# EAGLE library part M-2X18- (library con-headers-jp)
MALE HEADER
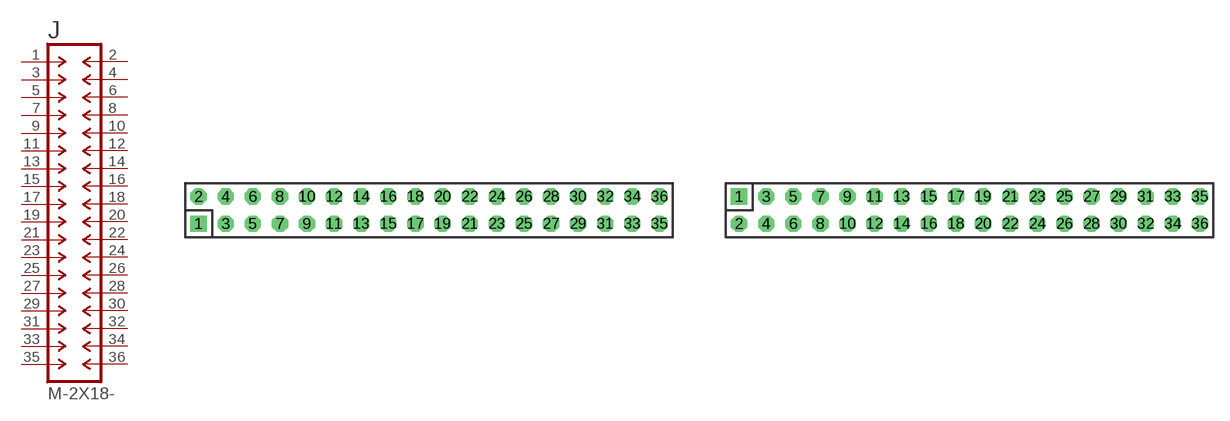
[diagram p71: symbol with the pads of DIL-100-2X18; footprints DIL-100-2X18, DIL-100-2X18_M]

Designator prefix J

## M-2X18-DIL-100  [DIL-100-2X18]
1  1  pas
2  2  pas
3  3  pas
4  4  pas
5  5  pas
6  6  pas
7  7  pas
8  8  pas
9  9  pas
10  10  pas
11  11  pas
12  12  pas
13  13  pas
14  14  pas
15  15  pas
16  16  pas
17  17  pas
18  18  pas
19  19  pas
20  20  pas
21  21  pas
22  22  pas
23  23  pas
24  24  pas
25  25  pas
26  26  pas
27  27  pas
28  28  pas
29  29  pas
30  30  pas
31  31  pas
32  32  pas
33  33  pas
34  34  pas
35  35  pas
36  36  pas

## M-2X18-DIL-100_M  [DIL-100-2X18_M]
Pads as for DIL-100-2X18

## M-2X18-DIL-2MM  [DIL-2MM-2X18]
Pads as for DIL-100-2X18

## M-2X18-DIL-2MM_M  [DIL-2MM-2X18_M]
Pads as for DIL-100-2X18

## Footprint DIL-100-2X18 (pad centres in mm)
PIN HEADER - 0.1"
drill 1.016 square: 1 -21.59,-1.27
drill 1.016 octagon: 2 -21.59,1.27; 3 -19.05,-1.27; 4 -19.05,1.27; 5 -16.51,-1.27; 6 -16.51,1.27; 7 -13.97,-1.27; 8 -13.97,1.27; 9 -11.43,-1.27; 10 -11.43,1.27; 11 -8.89,-1.27; 12 -8.89,1.27; 13 -6.35,-1.27; 14 -6.35,1.27; 15 -3.81,-1.27; 16 -3.81,1.27; 17 -1.27,-1.27; 18 -1.27,1.27; 19 1.27,-1.27; 20 1.27,1.27; 21 3.81,-1.27; 22 3.81,1.27; 23 6.35,-1.27; 24 6.35,1.27; 25 8.89,-1.27; 26 8.89,1.27; 27 11.43,-1.27; 28 11.43,1.27; 29 13.97,-1.27; 30 13.97,1.27; 31 16.51,-1.27; 32 16.51,1.27; 33 19.05,-1.27; 34 19.05,1.27; 35 21.59,-1.27; 36 21.59,1.27

## Footprint DIL-100-2X18_M (pad centres in mm)
PIN HEADER - MIRRORED 0.1"
drill 1.016 square: 1 -21.59,1.27
drill 1.016 octagon: 2 -21.59,-1.27; 3 -19.05,1.27; 4 -19.05,-1.27; 5 -16.51,1.27; 6 -16.51,-1.27; 7 -13.97,1.27; 8 -13.97,-1.27; 9 -11.43,1.27; 10 -11.43,-1.27; 11 -8.89,1.27; 12 -8.89,-1.27; 13 -6.35,1.27; 14 -6.35,-1.27; 15 -3.81,1.27; 16 -3.81,-1.27; 17 -1.27,1.27; 18 -1.27,-1.27; 19 1.27,1.27; 20 1.27,-1.27; 21 3.81,1.27; 22 3.81,-1.27; 23 6.35,1.27; 24 6.35,-1.27; 25 8.89,1.27; 26 8.89,-1.27; 27 11.43,1.27; 28 11.43,-1.27; 29 13.97,1.27; 30 13.97,-1.27; 31 16.51,1.27; 32 16.51,-1.27; 33 19.05,1.27; 34 19.05,-1.27; 35 21.59,1.27; 36 21.59,-1.27

## Footprint DIL-2MM-2X18 (pad centres in mm)
PIN HEADER - 2MM
drill 0.711 square: 1 -17,-1
drill 0.711: 2 -17,1; 3 -15,-1; 4 -15,1; 5 -13,-1; 6 -13,1; 7 -11,-1; 8 -11,1; 9 -9,-1; 10 -9,1; 11 -7,-1; 12 -7,1; 13 -5,-1; 14 -5,1; 15 -3,-1; 16 -3,1; 17 -1,-1; 18 -1,1; 19 1,-1; 20 1,1; 21 3,-1; 22 3,1; 23 5,-1; 24 5,1; 25 7,-1; 26 7,1; 27 9,-1; 28 9,1; 29 11,-1; 30 11,1; 31 13,-1; 32 13,1; 33 15,1; 34 15,-1; 35 17,1; 36 17,-1

## Footprint DIL-2MM-2X18_M (pad centres in mm)
PIN HEADER - MIRRORED 2MM
drill 0.711 square: 1 -17,1
drill 0.711: 2 -17,-1; 3 -15,1; 4 -15,-1; 5 -13,1; 6 -13,-1; 7 -11,1; 8 -11,-1; 9 -9,1; 10 -9,-1; 11 -7,1; 12 -7,-1; 13 -5,1; 14 -5,-1; 15 -3,1; 16 -3,-1; 17 -1,1; 18 -1,-1; 19 1,1; 20 1,-1; 21 3,1; 22 3,-1; 23 5,1; 24 5,-1; 25 7,1; 26 7,-1; 27 9,1; 28 9,-1; 29 11,1; 30 11,-1; 31 13,1; 32 13,-1; 33 15,-1; 34 15,1; 35 17,-1; 36 17,1